# Altium footprint library WR-WTB_2.54mm.PcbLib: 34 footprints (part 2 of 3)
Each footprint in its own frame and in the unit in brackets; x right, y up, seen from the top. Pads: shape width x height; smd on the part's side, far side on the other; paste and mask are expansions set on the pad; w line width, h text height; cw(c..) or ccw(c..) is an arc to the next point about the centre after c.
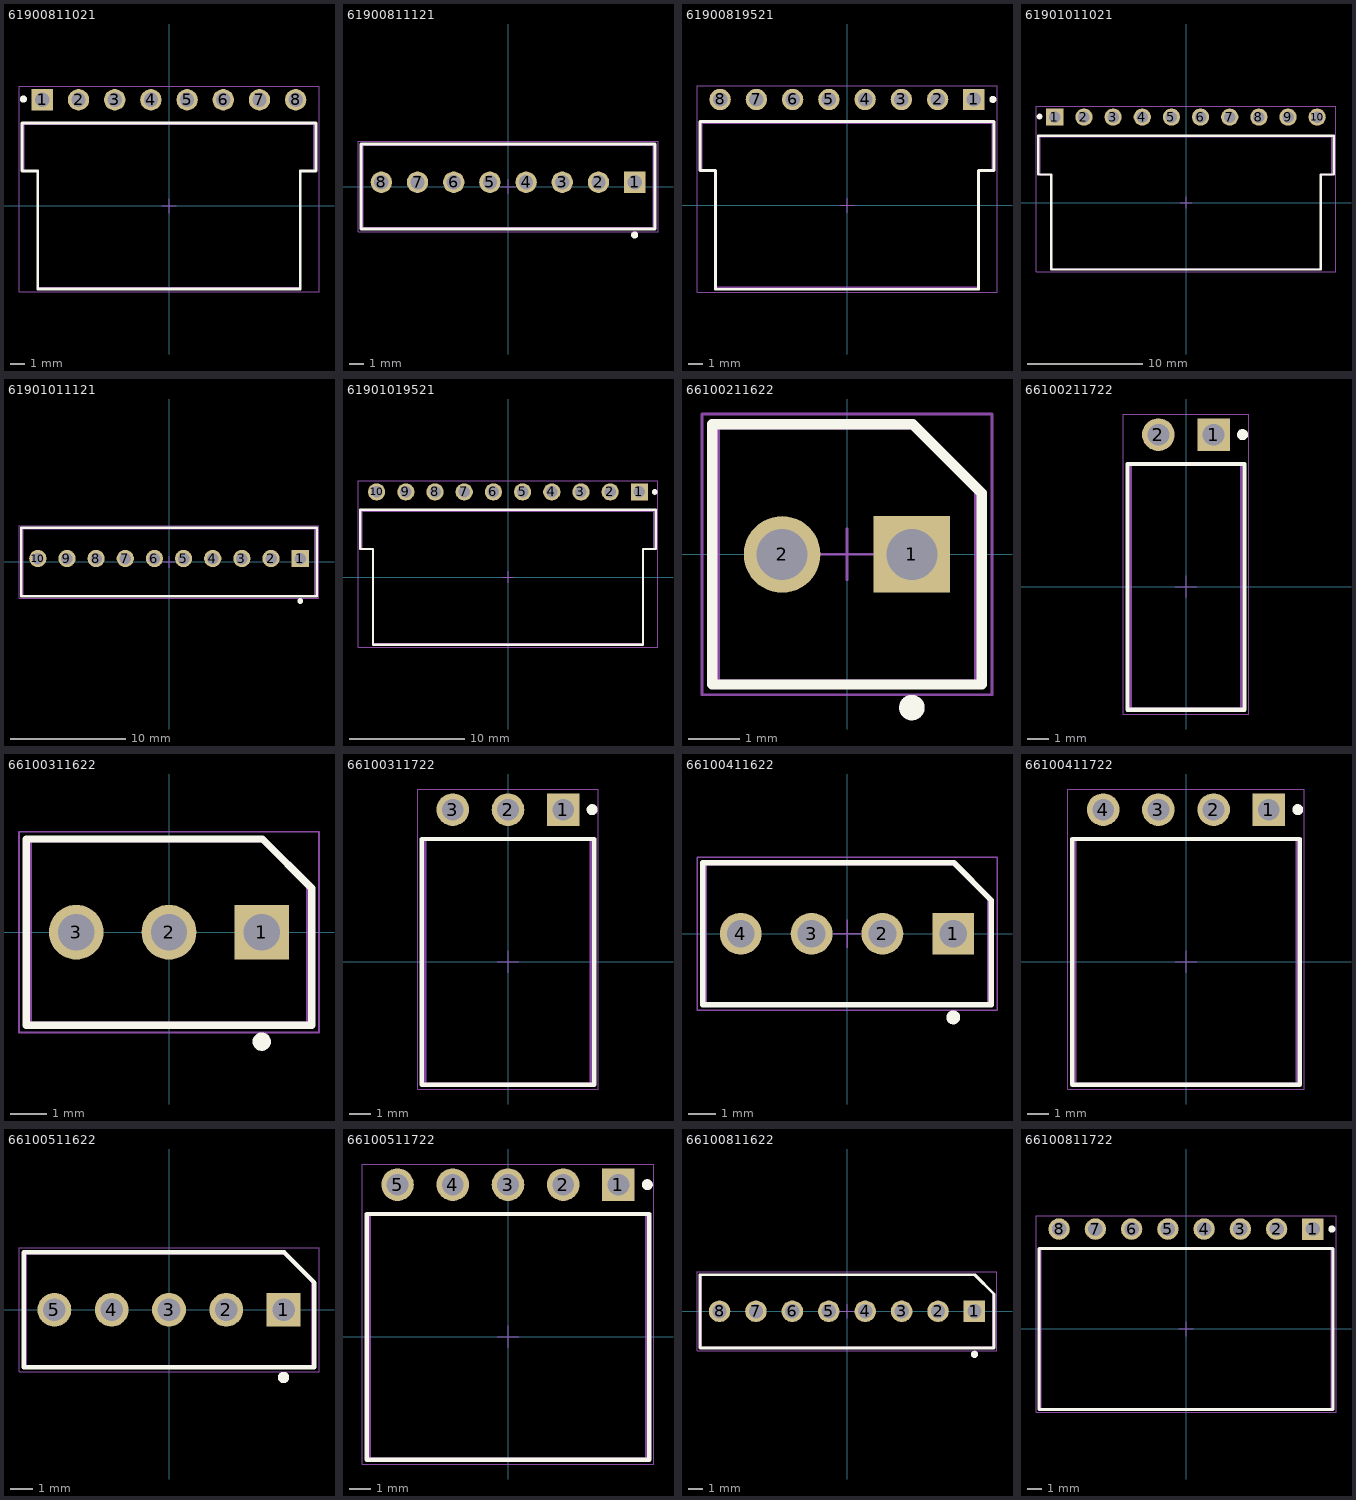
[diagram p1: the footprints below, top view; thin cyan lines are the x and y axes]

## 61900811021 [mm] "2.54mm Male Left Angled Header Bottom Locking, 8p"
height 5.8
pads (8):
  rect 1.5x1.5 hole 1: 1(-8.89,7.45)
  round 1.5 hole 1: 2(-6.35,7.45) 3(-3.81,7.45) 4(-1.27,7.45) 5(1.27,7.45) 6(3.81,7.45) 7(6.35,7.45) 8(8.89,7.45)
Top Overlay:
  circle w0.25: c-10.22,7.5 r0.125
  lines w0.2: -10.33,2.45 -10.33,5.825 10.33,5.825 10.33,2.45 9.21,2.45 9.21,-5.825 -9.21,-5.825 -9.21,2.45 -10.33,2.45
Mechanical 13:
  lines w0.1: 10.16,5.75 10.16,2.45 9.19,2.45 9.19,-5.75 -9.21,-5.75 -9.21,2.45 -10.18,2.45 -10.18,5.75 10.18,5.75
Mechanical 15:
  lines w0.05: -0.5,0 0.5,0 ; 0,-0.5 0,0.5 ; -10.53,-6.025 -10.53,8.4 10.53,8.4 10.53,-6.025 -10.53,-6.025
3D body "61900811021.stp": height 5.83, standoff -3.37, extent -10.17,-5.75 10.15,7.77

## 61900811121 [mm] "2.54mm Male Locking Header, 8p"
height 11.5
pads (8):
  rect 1.5x1.5 hole 1: 1(8.89,0.3)
  round 1.5 hole 1: 2(6.35,0.3) 3(3.81,0.3) 4(1.27,0.3) 5(-1.27,0.3) 6(-3.81,0.3) 7(-6.35,0.3) 8(-8.89,0.3)
Top Overlay:
  circle w0.25: c8.89,-3.4 r0.125
  lines w0.2: -10.33,-2.975 10.33,-2.975 10.33,2.975 -10.33,2.975 -10.33,-2.975
Mechanical 13:
  lines w0.1: -10.18,-2.9 -10.18,2.9 10.18,2.9 10.18,-2.9 -10.18,-2.9
Mechanical 15:
  lines w0.05: -0.5,0 0.5,0 ; 0,-0.5 0,0.5 ; -10.53,-3.175 -10.53,3.175 10.53,3.175 10.53,-3.175 -10.53,-3.175
3D body "61900811121.stp": height 11.53, standoff -3.37, extent -10.16,-2.9 10.16,2.9

## 61900819521 [mm] "2.54mm Male Right Angled Locking Header Top Locking, 8p"
height 5.8
pads (8):
  rect 1.5x1.5 hole 1: 1(8.89,7.42)
  round 1.5 hole 1: 2(6.35,7.42) 3(3.81,7.42) 4(1.27,7.42) 5(-1.27,7.42) 6(-3.81,7.42) 7(-6.35,7.42) 8(-8.89,7.42)
Top Overlay:
  circle w0.25: c10.22,7.42 r0.125
  lines w0.2: -10.31,2.45 -9.21,2.45 -9.21,-5.875 9.21,-5.875 9.21,2.45 10.31,2.45 10.31,5.875 -10.31,5.875 -10.31,2.45
Mechanical 13:
  lines w0.1: -10.16,2.45 -9.21,2.45 -9.21,-5.75 9.21,-5.75 9.21,2.45 10.16,2.45 10.16,5.75 -10.16,5.75 -10.16,2.45
Mechanical 15:
  lines w0.05: -0.5,0 0.5,0 ; 0,-0.5 0,0.5 ; -10.51,-6.075 -10.51,8.37 10.51,8.37 10.51,-6.075 -10.51,-6.075
3D body "61900819521.stp": height 5.83, standoff -3.37, extent -10.16,-5.75 10.16,7.77

## 61901011021 [mm] "2.54mm Male Left Angled Header Bottom Locking, 10p"
height 5.8
pads (10):
  rect 1.5x1.5 hole 1: 1(-11.43,7.45)
  round 1.5 hole 1: 2(-8.89,7.45) 3(-6.35,7.45) 4(-3.81,7.45) 5(-1.27,7.45) 6(1.27,7.45) 7(3.81,7.45) 8(6.35,7.45) 9(8.89,7.45) 10(11.43,7.45)
Top Overlay:
  circle w0.25: c-12.76,7.5 r0.125
  lines w0.2: -12.87,2.45 -12.87,5.825 12.87,5.825 12.87,2.45 11.75,2.45 11.75,-5.825 -11.75,-5.825 -11.75,2.45 -12.87,2.45
Mechanical 13:
  lines w0.1: 12.7,5.75 12.7,2.45 11.73,2.45 11.73,-5.75 -11.75,-5.75 -11.75,2.45 -12.72,2.45 -12.72,5.75 12.72,5.75
Mechanical 15:
  lines w0.05: -0.5,0 0.5,0 ; 0,-0.5 0,0.5 ; -13.07,-6.025 -13.07,8.4 13.07,8.4 13.07,-6.025 -13.07,-6.025
3D body "61901011021.stp": height 5.83, standoff -3.37, extent -12.71,-5.75 12.69,7.77

## 61901011121 [mm] "2.54mm Male Locking Header, 10p"
height 11.5
pads (10):
  rect 1.5x1.5 hole 1: 1(11.43,0.3)
  round 1.5 hole 1: 2(8.89,0.3) 3(6.35,0.3) 4(3.81,0.3) 5(1.27,0.3) 6(-1.27,0.3) 7(-3.81,0.3) 8(-6.35,0.3) 9(-8.89,0.3) 10(-11.43,0.3)
Top Overlay:
  circle w0.25: c11.43,-3.4 r0.125
  lines w0.2: -12.87,-2.975 12.87,-2.975 12.87,2.975 -12.87,2.975 -12.87,-2.975
Mechanical 13:
  lines w0.1: -12.72,-2.9 -12.72,2.9 12.72,2.9 12.72,-2.9 -12.72,-2.9
Mechanical 15:
  lines w0.05: -0.5,0 0.5,0 ; 0,-0.5 0,0.5 ; -13.07,-3.175 -13.07,3.175 13.07,3.175 13.07,-3.175 -13.07,-3.175
3D body "61901011121.stp": height 11.53, standoff -3.37, extent -12.7,-2.9 12.7,2.9

## 61901019521 [mm] "2.54mm Male Right Angled Locking Header Top Locking, 10p"
height 5.8
pads (10):
  rect 1.5x1.5 hole 1: 1(11.43,7.42)
  round 1.5 hole 1: 2(8.89,7.42) 3(6.35,7.42) 4(3.81,7.42) 5(1.27,7.42) 6(-1.27,7.42) 7(-3.81,7.42) 8(-6.35,7.42) 9(-8.89,7.42) 10(-11.43,7.42)
Top Overlay:
  circle w0.25: c12.76,7.42 r0.125
  lines w0.2: -12.85,2.45 -11.75,2.45 -11.75,-5.875 11.75,-5.875 11.75,2.45 12.85,2.45 12.85,5.875 -12.85,5.875 -12.85,2.45
Mechanical 13:
  lines w0.1: -12.7,2.45 -11.75,2.45 -11.75,-5.75 11.75,-5.75 11.75,2.45 12.7,2.45 12.7,5.75 -12.7,5.75 -12.7,2.45
Mechanical 15:
  lines w0.05: -0.5,0 0.5,0 ; 0,-0.5 0,0.5 ; -13.05,-6.075 -13.05,8.37 13.05,8.37 13.05,-6.075 -13.05,-6.075
3D body "61901019521.stp": height 5.83, standoff -3.37, extent -12.7,-5.75 12.7,7.77

## 66100211622 [mm] "2.54 mm Intercom Male Horizontal Shrouded Header, 2p"
height 11.3
pads (2):
  rect 1.5x1.5 hole 1: 1(1.27,0)
  round 1.5 hole 1: 2(-1.27,0)
Top Overlay:
  circle w0.25: c1.27,-3 r0.125
  lines w0.2: -2.64,-2.55 2.64,-2.55 2.64,1.2 1.29,2.55 -2.64,2.55 -2.64,-2.55
Mechanical 13:
  lines w0.1: -2.54,-2.5 -2.54,2.5 1.34,2.5 2.54,1.3 2.54,-2.5 -2.54,-2.5
Mechanical 15:
  lines w0.05: -0.5,0 0.5,0 ; 0,-0.5 0,0.5 ; -2.84,-2.75 2.84,-2.75 2.84,2.75 -2.84,2.75 -2.84,-2.75
3D body "66100211622.stp": height 11.33, standoff -2.97, extent -2.389,-2.5 2.391,2.5

## 66100211722 [mm] "2.54 mm Intercom Male Right Angled Shrouded Locking Header, 2p"
height 5
pads (2):
  rect 1.5x1.5 hole 1: 1(1.27,7)
  round 1.5 hole 1: 2(-1.27,7)
Top Overlay:
  circle w0.25: c2.6,7 r0.125
  lines w0.2: -2.69,-5.65 2.69,-5.65 2.69,5.65 -2.69,5.65 -2.69,-5.65
Mechanical 13:
  lines w0.1: -2.54,-5.6 -2.54,5.6 2.54,5.6 2.54,-5.6 -2.54,-5.6
Mechanical 15:
  lines w0.05: -0.5,0 0.5,0 ; 0,-0.5 0,0.5 ; -2.89,-5.85 2.89,-5.85 2.89,7.95 -2.89,7.95 -2.89,-5.85
3D body "66100211722.stp": height 5.05, standoff -2.85, extent -2.39,-5.6 2.39,7.318

## 66100311622 [mm] "2.54 mm Intercom Male Horizontal Shrouded Header, 3p"
height 11.3
pads (3):
  rect 1.5x1.5 hole 1: 1(2.54,0)
  round 1.5 hole 1: 2(0,0) 3(-2.54,0)
Top Overlay:
  circle w0.25: c2.54,-3 r0.125
  lines w0.2: -3.91,-2.55 3.91,-2.55 3.91,1.2 2.56,2.55 -3.91,2.55 -3.91,-2.55
Mechanical 13:
  lines w0.1: -3.81,-2.5 -3.81,2.5 2.61,2.5 3.81,1.3 3.81,-2.5 -3.81,-2.5
Mechanical 15:
  lines w0.05: -0.5,0 0.5,0 ; 0,-0.5 0,0.5 ; -4.11,-2.75 4.11,-2.75 4.11,2.75 -4.11,2.75 -4.11,-2.75
3D body "66100311622.stp": height 11.33, standoff -2.97, extent -3.66,-2.5 3.66,2.5

## 66100311722 [mm] "2.54 mm Intercom Male Right Angled Shrouded Locking Header, 3p"
height 5
pads (3):
  rect 1.5x1.5 hole 1: 1(2.54,7)
  round 1.5 hole 1: 2(0,7) 3(-2.54,7)
Top Overlay:
  circle w0.25: c3.87,7 r0.125
  lines w0.2: -3.96,-5.65 -3.96,5.65 3.96,5.65 3.96,-5.65 -3.96,-5.65
Mechanical 13:
  lines w0.1: -3.81,-5.6 3.81,-5.6 3.81,5.6 -3.81,5.6 -3.81,-5.6
Mechanical 15:
  lines w0.05: -0.5,0 0.5,0 ; 0,-0.5 0,0.5 ; -4.16,-5.85 -4.16,7.95 4.16,7.95 4.16,-5.85 -4.16,-5.85
3D body "66100311722.stp": height 5.05, standoff -2.85, extent -3.66,-5.6 3.66,7.318

## 66100411622 [mm] "2.54 mm Intercom Male Horizontal Shrouded Header, 4p"
height 11.3
pads (4):
  rect 1.5x1.5 hole 1: 1(3.81,0)
  round 1.5 hole 1: 2(1.27,0) 3(-1.27,0) 4(-3.81,0)
Top Overlay:
  circle w0.25: c3.81,-3 r0.125
  lines w0.2: -5.18,-2.55 -5.18,2.55 3.83,2.55 5.18,1.2 5.18,-2.55 -5.18,-2.55
Mechanical 13:
  lines w0.1: -5.08,-2.5 5.08,-2.5 5.08,1.3 3.88,2.5 -5.08,2.5 -5.08,-2.5
Mechanical 15:
  lines w0.05: -0.5,0 0.5,0 ; 0,-0.5 0,0.5 ; -5.38,-2.75 -5.38,2.75 5.38,2.75 5.38,-2.75 -5.38,-2.75
3D body "66100411622.stp": height 11.33, standoff -2.97, extent -4.93,-2.5 4.93,2.5

## 66100411722 [mm] "2.54 mm Intercom Male Right Angled Shrouded Locking Header, 4p"
height 5
pads (4):
  rect 1.5x1.5 hole 1: 1(3.81,7)
  round 1.5 hole 1: 2(1.27,7) 3(-1.27,7) 4(-3.81,7)
Top Overlay:
  circle w0.25: c5.14,7 r0.125
  lines w0.2: -5.23,-5.65 5.23,-5.65 5.23,5.65 -5.23,5.65 -5.23,-5.65
Mechanical 13:
  lines w0.1: -5.08,-5.6 -5.08,5.6 5.08,5.6 5.08,-5.6 -5.08,-5.6
Mechanical 15:
  lines w0.05: -0.5,0 0.5,0 ; 0,-0.5 0,0.5 ; -5.43,-5.85 5.43,-5.85 5.43,7.95 -5.43,7.95 -5.43,-5.85
3D body "66100411722.stp": height 5.05, standoff -2.85, extent -4.93,-5.6 4.93,7.318

## 66100511622 [mm] "2.54 mm Intercom Male Horizontal Shrouded Header, 5p"
height 11.3
pads (5):
  rect 1.5x1.5 hole 1: 1(5.08,0)
  round 1.5 hole 1: 2(2.54,0) 3(0,0) 4(-2.54,0) 5(-5.08,0)
Top Overlay:
  circle w0.25: c5.08,-3 r0.125
  lines w0.2: -6.45,-2.55 6.45,-2.55 6.45,1.2 5.1,2.55 -6.45,2.55 -6.45,-2.55
Mechanical 13:
  lines w0.1: -6.35,-2.5 -6.35,2.5 5.15,2.5 6.35,1.3 6.35,-2.5 -6.35,-2.5
Mechanical 15:
  lines w0.05: -0.5,0 0.5,0 ; 0,-0.5 0,0.5 ; -6.65,-2.75 6.65,-2.75 6.65,2.75 -6.65,2.75 -6.65,-2.75
3D body "66100511622.stp": height 11.33, standoff -2.97, extent -6.2,-2.5 6.2,2.5

## 66100511722 [mm] "2.54 mm Intercom Male Right Angled Shrouded Locking Header, 5p"
height 5
pads (5):
  rect 1.5x1.5 hole 1: 1(5.08,7)
  round 1.5 hole 1: 2(2.54,7) 3(0,7) 4(-2.54,7) 5(-5.08,7)
Top Overlay:
  circle w0.25: c6.41,7 r0.125
  lines w0.2: -6.5,-5.65 -6.5,5.65 6.5,5.65 6.5,-5.65 -6.5,-5.65
Mechanical 13:
  lines w0.1: -6.35,-5.6 6.35,-5.6 6.35,5.6 -6.35,5.6 -6.35,-5.6
Mechanical 15:
  lines w0.05: -0.5,0 0.5,0 ; 0,-0.5 0,0.5 ; -6.7,-5.85 -6.7,7.95 6.7,7.95 6.7,-5.85 -6.7,-5.85
3D body "66100511722.stp": height 5.05, standoff -2.85, extent -6.2,-5.6 6.2,7.318

## 66100811622 [mm] "2.54 mm Intercom Male Horizontal Shrouded Header, 8p"
height 11.3
pads (8):
  rect 1.5x1.5 hole 1: 1(8.89,0)
  round 1.5 hole 1: 2(6.35,0) 3(3.81,0) 4(1.27,0) 5(-1.27,0) 6(-3.81,0) 7(-6.35,0) 8(-8.89,0)
Top Overlay:
  circle w0.25: c8.89,-3 r0.125
  lines w0.2: -10.26,-2.55 10.26,-2.55 10.26,1.2 8.91,2.55 -10.26,2.55 -10.26,-2.55
Mechanical 13:
  lines w0.1: -10.16,-2.5 -10.16,2.5 8.96,2.5 10.16,1.3 10.16,-2.5 -10.16,-2.5
Mechanical 15:
  lines w0.05: -0.5,0 0.5,0 ; 0,-0.5 0,0.5 ; -10.46,-2.75 10.46,-2.75 10.46,2.75 -10.46,2.75 -10.46,-2.75
3D body "66100811622.stp": height 11.33, standoff -2.97, extent -10.01,-2.5 10.01,2.5

## 66100811722 [mm] "2.54 mm Intercom Male Right Angled Shrouded Locking Header, 8p"
height 5
pads (8):
  rect 1.5x1.5 hole 1: 1(8.89,7)
  round 1.5 hole 1: 2(6.35,7) 3(3.81,7) 4(1.27,7) 5(-1.27,7) 6(-3.81,7) 7(-6.35,7) 8(-8.89,7)
Top Overlay:
  circle w0.25: c10.22,7 r0.125
  lines w0.2: -10.31,-5.65 -10.31,5.65 10.31,5.65 10.31,-5.65 -10.31,-5.65
Mechanical 13:
  lines w0.1: -10.16,-5.6 10.16,-5.6 10.16,5.6 -10.16,5.6 -10.16,-5.6
Mechanical 15:
  lines w0.05: -0.5,0 0.5,0 ; 0,-0.5 0,0.5 ; -10.51,-5.85 -10.51,7.95 10.51,7.95 10.51,-5.85 -10.51,-5.85
3D body "66100811722.stp": height 5.05, standoff -2.85, extent -10.022,-5.6 10.022,7.318